# Altium schematic symbol library GRM21BR61E226ME44L.SchLib: 1 symbol
Pins are listed as number, name and electrical type; pins without a type are passive.

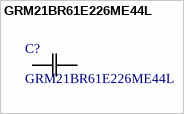
[diagram p0: symbol GRM21BR61E226ME44L]

## GRM21BR61E226ME44L
designator C?
Description; Manufacturer_Name: Murata; Type: Ceramic Capacitors; Copyright: Copyright (C) 2025 Ultra Librarian. All rights reserved.; Manufacturer_Part_Number: GRM21BR61E226ME44L
footprint CAP_GRM21_MUR
pins: 1, 2